# Altium schematic symbol library TPS610995DRVR.SchLib: 2 symbols
Pins are listed as number, name and electrical type; pins without a type are passive.

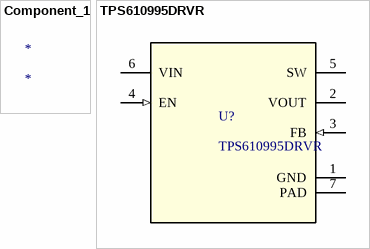
[diagram p0: symbols Component_1 to TPS610995DRVR]

## Component_1
designator *

## TPS610995DRVR
designator U?
No Description Available; Mfr_Name: Texas Instruments; Type: DEV; RefDes: RefDes; Copyright: Copyright (C) 2022 Ultra Librarian. All rights reserved.; Manufacturer_Part_Number: TPS610995DRVR
footprint DRV0006A
pins: 1 GND (power), 2 VOUT (power), 3 FB (in), 4 EN (in), 5 SW (power), 6 VIN (power), 7 PAD (power)